# Altium footprint library PACKAGES_TO_SOT_SMD.PcbLib: 9 footprints
Each footprint in its own frame and in the unit in brackets; x right, y up, seen from the top. Pads: shape width x height; smd on the part's side, far side on the other; paste and mask are expansions set on the pad; w line width, h text height; cw(c..) or ccw(c..) is an arc to the next point about the centre after c.
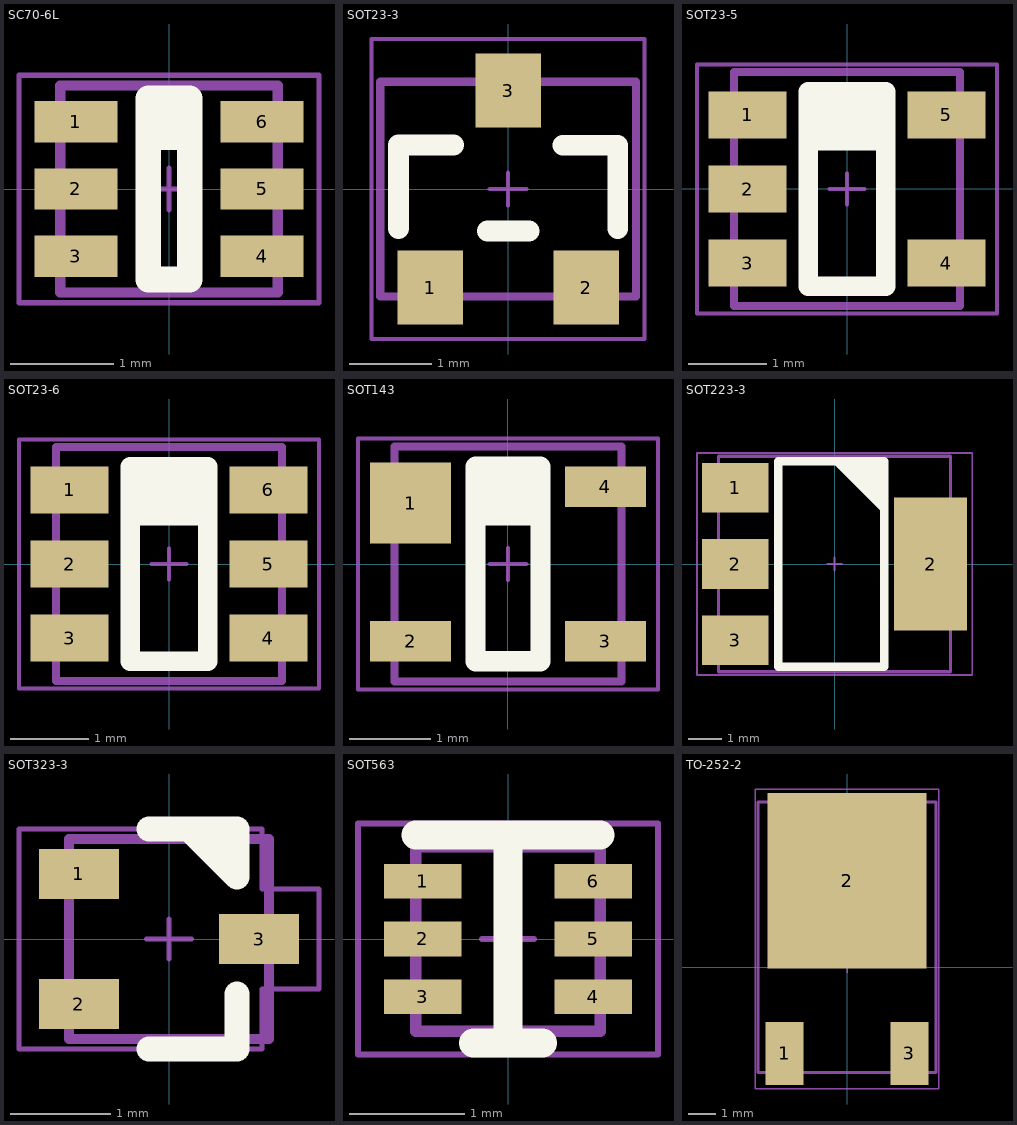
[diagram p0: the footprints below, top view; thin cyan lines are the x and y axes]

## SC70-6L [mm]
pads (6):
  rect 0.8x0.4 smd: 1(-0.9,0.65) 2(-0.9,0) 3(-0.9,-0.65) 4(0.9,-0.65) 5(0.9,0) 6(0.9,0.65)
Top Overlay:
  lines w0.25: -0.2,0.5 0.2,0.5 0.2,0.7 -0.2,0.7 ; -0.2,-0.875 -0.2,0.875 0.2,0.875 0.2,-0.875 -0.2,-0.875
Mechanical 13:
  lines w0.1: -1.05,-1 1.05,-1 1.05,1 -1.05,1 -1.05,-1
Mechanical 15:
  lines w0.05: -0.225,0 0.225,0 ; 0,-0.2 0,0.2 ; -1.45,-1.1 1.45,-1.1 1.45,1.1 -1.25,1.1 -1.45,1.1 -1.45,-1.1
3D body "SC70-6.step": height 1.1, standoff 0, extent -1.05,-1 1.05,1

## SOT23-3 [mm]
pads (3):
  rect 0.8x0.9 smd: 1(-0.95,-1.2) 2(0.95,-1.2) 3(0,1.2)
Top Overlay:
  lines w0.254: -1.338,-0.478 -1.338,0.538 -0.668,0.538 ; -0.254,-0.508 0.254,-0.508 ; 0.665,0.534 1.335,0.534 1.335,-0.482
Mechanical 13:
  lines w0.1: -1.558,-1.308 -1.558,1.309 1.558,1.309 1.558,-1.308 -1.558,-1.308
Mechanical 15:
  lines w0.05: -0.225,0 0.225,0 ; 0,-0.2 0,0.2 ; -1.665,-1.825 -1.665,0.174 -1.665,1.829 1.661,1.829 1.661,-1.825 -1.665,-1.825
3D body "SOT-23.step": height 1.2, standoff 0, extent -1.5,-1.25 1.5,1.25

## SOT23-5 [mm]
pads (5):
  rect 1x0.6 smd: 1(-1.275,0.95) 2(-1.275,0) 3(-1.275,-0.95) 4(1.275,-0.95) 5(1.275,0.95)
Top Overlay:
  region: -0.5,1.25 -0.5,0.5 0.5,0.5 0.5,1.25
  lines w0.25: -0.075,1.25 0,1.25 ; -0.5,-1.25 0.5,-1.25 0.5,1.25 -0.5,1.25 -0.5,-1.25
Mechanical 13:
  lines w0.1: -1.45,-1.5 1.45,-1.5 1.45,1.25 1.45,1.5 -1.45,1.5 -1.45,-1.5
Mechanical 15:
  lines w0.05: -0.225,0 0.225,0 ; 0,-0.2 0,0.2 ; -1.925,-1.6 1.925,-1.6 1.925,1.6 -1.925,1.6 -1.925,-1.6
3D body "SOT-23-5.step": height 1.55, standoff 0, extent -1.4,-1.45 1.4,1.45

## SOT23-6 [mm]
pads (6):
  rect 1x0.6 smd: 1(-1.275,0.95) 2(-1.275,0) 3(-1.275,-0.95) 4(1.275,-0.95) 5(1.275,0) 6(1.275,0.95)
Top Overlay:
  region: -0.5,1.25 -0.5,0.5 0.5,0.5 0.5,1.25
  lines w0.25: -0.075,1.25 0,1.25 ; -0.5,-1.25 -0.5,1.25 0.5,1.25 0.5,-1.25 -0.5,-1.25
Mechanical 13:
  lines w0.1: -1.45,-1.5 -1.45,1.5 1.45,1.5 1.45,1.25 1.45,-1.5 -1.45,-1.5
Mechanical 15:
  lines w0.05: -0.225,0 0.225,0 ; 0,-0.2 0,0.2 ; -1.925,-1.6 -1.925,1.6 1.925,1.6 1.925,-1.6 -1.925,-1.6
3D body "SOT-23-6.step": height 1.55, standoff 0, extent -1.4,-1.45 1.4,1.45

## SOT143 [mm]
pads (4):
  rect 1x1 smd: 1(-1.2,0.75)
  rect 1x0.5 smd: 2(-1.2,-0.95) 3(1.2,-0.95) 4(1.2,0.95)
Top Overlay:
  lines w0.25: -0.4,0.6 0.4,0.6 ; -0.4,0.8 0.4,0.8 ; -0.4,1 0.4,1 ; -0.4,-1.2 0.4,-1.2 0.4,1.2 -0.4,1.2 -0.4,-1.2
Mechanical 13:
  lines w0.1: -1.4,-1.45 1.4,-1.45 1.4,1.45 -1.4,1.45 -1.4,-1.45
Mechanical 15:
  lines w0.05: -0.225,0 0.225,0 ; 0,-0.2 0,0.2 ; -1.85,-1.55 1.85,-1.55 1.85,1.55 -1.85,1.55 -1.85,-1.55
3D body "SOT-143.step": height 1.2, standoff 0, extent -1.4,-1.45 1.4,1.45

## SOT223-3 [mm]
pads (4):
  rect 2x1.5 smd: 1(-3,2.3) 2(-3,0) 3(-3,-2.3)
  rect 2.2x4 smd: 2(2.9,0)
Top Overlay:
  region: 1.5,3.1 -0.1,3.1 1.5,1.5
  lines w0.25: -1.7,-3.1 1.5,-3.1 1.5,3.1 -1.7,3.1 -1.7,-3.1
Mechanical 13:
  lines w0.1: -3.5,-3.25 3.5,-3.25 3.5,3.25 -3.5,3.25 -3.5,-3.25
Mechanical 15:
  lines w0.05: -0.225,0 0.225,0 ; 0,-0.2 0,0.2 ; -4.15,-3.35 4.15,-3.35 4.15,3.35 -4.15,3.35 -4.15,2.325 -4.15,-3.35
3D body "SOT-223.step": height 1.7, standoff 0, extent -3.5,-3.25 3.5,3.25

## SOT323-3 [mm]
pads (3):
  rect 0.8x0.5 smd: 1(-0.9,0.65) 2(-0.9,-0.65) 3(0.9,0)
Top Overlay:
  region: 0.68,0.62 0.68,1.1 0.2,1.1
  lines w0.05: 0.68,0.55 0.68,0.62
  lines w0.25: -0.2,-1.1 0.68,-1.1 0.68,-0.55 ; -0.2,1.1 0.68,1.1 0.68,0.62 0.2,1.1
Mechanical 13:
  lines w0.1: -1,-1 1,-1 1,1 -1,1 -1,-1
Mechanical 15:
  lines w0.05: -0.225,0 0.225,0 ; 0,-0.2 0,0.2 ; -1.5,-1.1 -1.5,1.1 -0.93,1.1 0.93,1.1 0.93,0.5 1.5,0.5 1.5,-0.5 0.93,-0.5 0.93,-1.1 -0.93,-1.1 -1.5,-1.1
3D body "SOT-323_SC-70.step": height 1.05, standoff 0, extent -1,-1 1,1

## SOT563 [mm]
pads (6):
  rect 0.67x0.3 smd: 1(-0.74,0.5) 2(-0.74,0) 3(-0.74,-0.5) 4(0.74,-0.5) 5(0.74,0) 6(0.74,0.5)
Top Overlay:
  lines w0.25: -0.8,0.9 0.8,0.9 ; -0.3,-0.9 0.3,-0.9 ; 0,-0.9 0,0.9
Mechanical 13:
  lines w0.1: -0.8,-0.8 0.8,-0.8 0.8,0.8 -0.8,0.8 -0.8,-0.8
Mechanical 15:
  lines w0.05: -0.225,0 0.225,0 ; 0,-0.2 0,0.2 ; -1.3,-1 1.3,-1 1.3,1 -1.3,1 -1.3,-1
3D body "SOT-563.step": height 0.63, standoff 0, extent -0.8,-0.8 0.8,0.8

## TO-252-2 [mm]
pads (3):
  rect 1.4x2.3 smd: 1(-2.28,-3.15) 3(2.28,-3.15)
  rect 5.8x6.4 smd: 2(0,3.15)
Mechanical 13:
  lines w0.1: -3.25,-3.85 3.25,-3.85 3.25,6.025 -3.25,6.025 -3.25,-3.85
Mechanical 15:
  lines w0.05: -0.225,0 0.225,0 ; 0,-0.2 0,0.2 ; -3.35,-4.45 3.35,-4.45 3.35,6.5 -3.35,6.5 -3.35,-4.45
3D body "TO-252-2.step": height 2.32, standoff 0, extent -3.25,-3.865 3.25,6.035